# Altium footprint library Diodes Incorporated Single LDOs.PcbLib: 3 footprints
Each footprint in its own frame and in the unit in brackets; x right, y up, seen from the top. Pads: shape width x height; smd on the part's side, far side on the other; paste and mask are expansions set on the pad; w line width, h text height; cw(c..) or ccw(c..) is an arc to the next point about the centre after c.
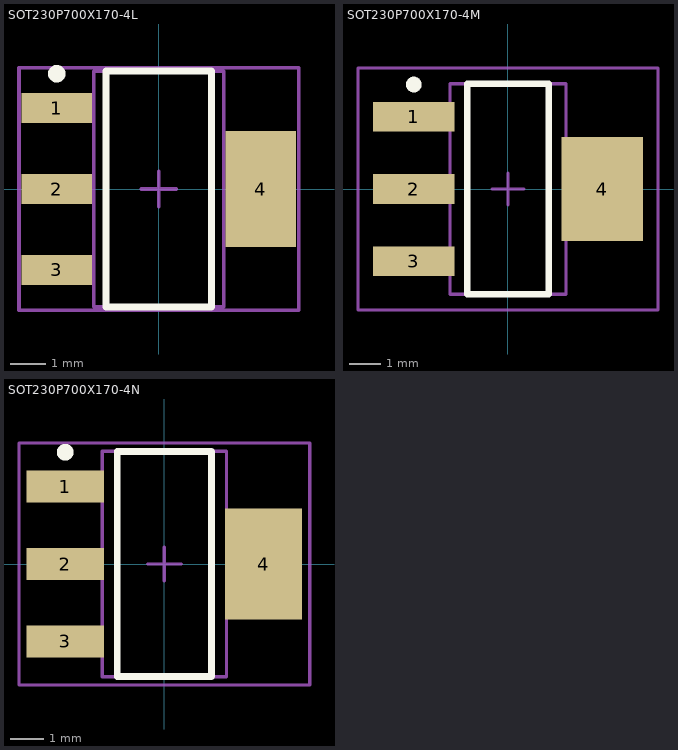
[diagram p0: the footprints below, top view; thin cyan lines are the x and y axes]

## SOT230P700X170-4L [mm] "SOT223, 4-Leads, Body 6.7x7.3mm (max), Pitch 2.30mm, IPC High Density"
height 1.7
pads (4):
  rect 2x0.85 smd: 1(-2.9,2.3) 2(-2.9,0) 3(-2.9,-2.3)
  rect 2x3.3 smd: 4(2.9,0)
Top Overlay:
  circle w0.25: c-2.9,3.275 r0.125
  lines w0.2: -1.5,-3.35 1.5,-3.35 1.5,3.35 -1.5,3.35 -1.5,-3.35
Mechanical 13:
  lines w0.1: -1.85,-3.35 1.85,-3.35 1.85,3.35 -1.85,3.35 -1.85,-3.35
Mechanical 15:
  lines w0.1: -0.5,0 0.5,0 ; 0,-0.5 0,0.5 ; -3.975,-3.45 3.975,-3.45 3.975,3.45 -3.975,3.45 -3.975,-3.45
3D body: height 1.7, standoff 0.01, extent -1.85,-3.35 1.85,3.35

## SOT230P700X170-4M [mm] "SOT223, 4-Leads, Body 6.7x7.3mm (max), Pitch 2.30mm, IPC Low Density"
height 1.7
pads (4):
  rect 2.6x0.95 smd: 1(-3,2.3) 2(-3,0) 3(-3,-2.3)
  rect 2.6x3.3 smd: 4(3,0)
Top Overlay:
  circle w0.25: c-3,3.325 r0.125
  lines w0.2: -1.3,-3.35 1.3,-3.35 1.3,3.35 -1.3,3.35 -1.3,-3.35
Mechanical 13:
  lines w0.1: -1.85,-3.35 1.85,-3.35 1.85,3.35 -1.85,3.35 -1.85,-3.35
Mechanical 15:
  lines w0.1: -0.5,0 0.5,0 ; 0,-0.5 0,0.5 ; -4.775,-3.85 4.775,-3.85 4.775,3.85 -4.775,3.85 -4.775,-3.85
3D body: height 1.7, standoff 0.01, extent -1.85,-3.35 1.85,3.35

## SOT230P700X170-4N [mm] "SOT223, 4-Leads, Body 6.7x7.3mm (max), Pitch 2.30mm, IPC Medium Density"
height 1.7
pads (4):
  rect 2.3x0.95 smd: 1(-2.95,2.3) 2(-2.95,0) 3(-2.95,-2.3)
  rect 2.3x3.3 smd: 4(2.95,0)
Top Overlay:
  circle w0.25: c-2.95,3.325 r0.125
  lines w0.2: -1.4,-3.35 1.4,-3.35 1.4,3.35 -1.4,3.35 -1.4,-3.35
Mechanical 13:
  lines w0.1: -1.85,-3.35 1.85,-3.35 1.85,3.35 -1.85,3.35 -1.85,-3.35
Mechanical 15:
  lines w0.1: -0.5,0 0.5,0 ; 0,-0.5 0,0.5 ; -4.325,-3.6 4.325,-3.6 4.325,3.6 -4.325,3.6 -4.325,-3.6
3D body: height 1.7, standoff 0.01, extent -1.85,-3.35 1.85,3.35